# EAGLE library part ZX62R-B-5P (library 180118 Library by matsu)
HIROSE MICRO-B USB CONNECTOR ZX62R-B-5P http://akizukidenshi.com/download/ds/hirose/ZX62R-B-5P.pdf
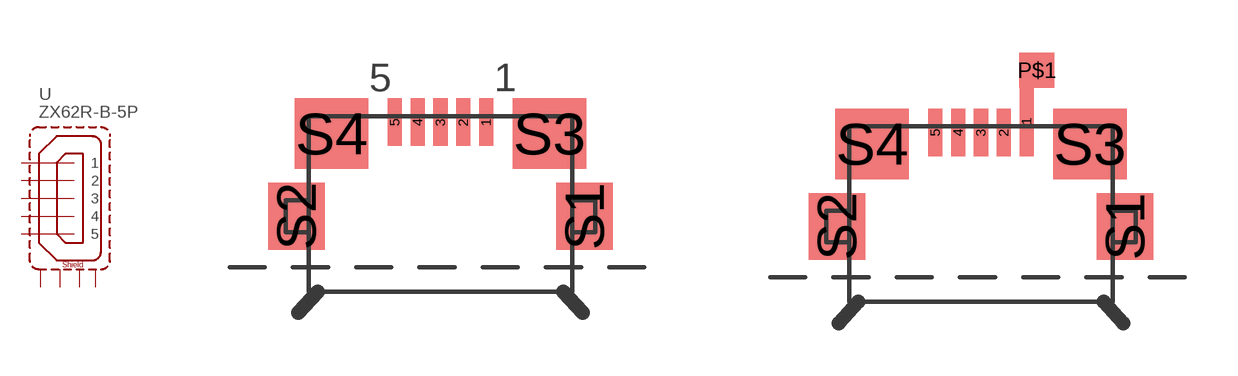
[diagram p51: symbol with the pads of ZX62R-B-5P; footprints ZX62R-B-5P, ZX62R-B-SP-POWER]

Designator prefix -

## ZX62R-B-5PSTD  [ZX62R-B-5P]
1  1  in
2  2  in
3  3  in
4  4  in
5  5  in
S1  S1  pas
S2  S2  pas
S3  S3  pas
S4  S4  pas

## ZX62R-B-5PPWR  [ZX62R-B-SP-POWER]
Pads as for ZX62R-B-5P

## Footprint ZX62R-B-5P (pad centres in mm)
smd 0.4 x 1.35: 1 1.3,2.675; 2 0.65,2.675; 3 0,2.675; 4 -0.65,2.675; 5 -1.3,2.675
smd 1.6 x 1.9: S1 4.1,0; S2 -4.1,0
smd 2.1 x 2: S3 3.1,2.35; S4 -3.1,2.35

## Footprint ZX62R-B-SP-POWER (pad centres in mm)
smd 0.4 x 2: 1 1.3,3
smd 0.4 x 1.35: 2 0.65,2.675; 3 0,2.675; 4 -0.65,2.675; 5 -1.3,2.675
smd 1 x 1: P$1 1.587,4.445
smd 1.6 x 1.9: S1 4.1,0; S2 -4.1,0
smd 2.1 x 2: S3 3.1,2.35; S4 -3.1,2.35